# Altium integrated library WPT Round 2 TX.IntLib: 57 symbols
Pins are listed as number, name and electrical type; pins without a type are passive.

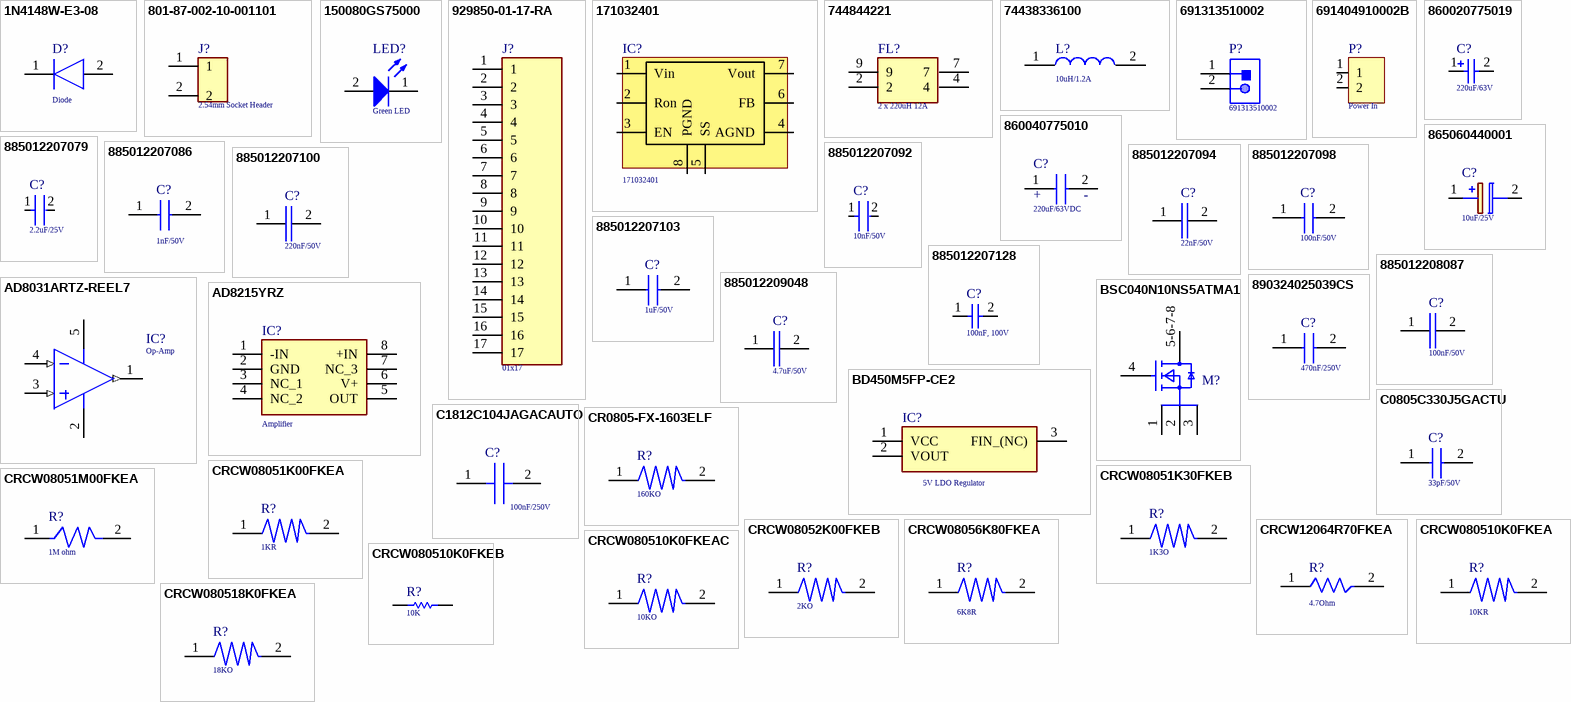
[diagram p0: symbols 1N4148W-E3-08 to CRCW080518K0FKEA]

## 1N4148W-E3-08
designator D?, comment Diode
Manufacturer_Name: Vishay; Manufacturer_Part_Number: 1N4148W-E3-08; Datasheet Link: https://componentsearchengine.com//1N4148W-E3-08.pdf; Height: 1.35mm; Mouser2 Part Number: 78-1N4148W-E3-08; Mouser2 Price/Stock: https://www.mouser.com/Search/Refine.aspx?Keyword=78-1N4148W-E3-08; Supplier 1: Digi-Key; Supplier Part Number 1: 1N4148W-E3-08CT-ND
footprint SOD3716X135N
pins: 1 K, 2 A

## 801-87-002-10-001101
designator J?, comment 2.54mm Socket Header
Connector; Manufacturer_Name: Preci-Dip; Manufacturer_Part_Number: 801-87-002-10-001101; Datasheet Link: https://componentsearchengine.com//801-87-002-10-001101.pdf; Height: 7mm; Mouser2 Part Number: 437-8018700210001101; Mouser2 Price/Stock: https://www.mouser.com/Search/Refine.aspx?Keyword=437-8018700210001101
footprint RHDR2W60P0X254_1X2_508X254X700P
pins: 1, 2

## 150080GS75000
designator LED?, comment Green LED
SMD mono-color Chip LED, WL-SMCW, Green; PartNumber: 150080GS75000; Manufacturer: Wuerth Elektronik; PackageReference: 0805_A; Color: Green; ComponentLink2URL: http://katalog.we-online.com/led/datasheet/150080GS75000.pdf; ComponentLink1URL: http://www.we-online.com; ComponentLink1Description: Manufacturer URL; ComponentLink2Description: Datasheet; Supplier 1: Mouser; Supplier Part Number 1: 710-150080GS75000
footprint 0805_A (Chip LED, 2-Leads, Body 2.0x1.3mm, IPC Medium Density)
pins: 1 K, 2 A

## 929850-01-17-RA
designator J?, comment 01x17
Connector 2.54mm; Manufacturer_Name: 3M; Manufacturer_Part_Number: 929850-01-17-RA; Datasheet Link: http://multimedia.3m.com/mws/media/22500O/3mtm-boardmount-skt-100-100x-100strt-sldr-tails-ts0815.pdf; Height: 8.26mm; Supplier Part Number 1: 517-929850-01-17-RA; Supplier 1: Mouser
footprint RHDR17W76P0X254_1X17_4318X254X826P
pins: 1, 2, 3, 4, 5, 6, 7, 8, 9, 10, 11, 12, 13, 14, 15, 16, 17

## 171032401
designator IC?
MagI³C-VDRM Variable Step Down Regulator Module WE-VDRM , Ui=6-42V; Manufacturer: Wuerth Elektronik; Ui: 6-42 V; ComponentLink1Description: Manufacturer URL; ComponentLink2Description: Datasheet; ComponentLink1URL: http://www.we-online.com; ComponentLink2URL: http://katalog-live.we-online.de/pm/datasheet/171032401.pdf; PartNumber: 171032401; PackageReference: 7 PIN PFM; Supplier 1: Mouser; Supplier Part Number 1: 710-171032401
footprint 7 PIN PFM (SMD, 7-Leads, Body 10.4x10.1mm (max), Pitch 1.27mm, IPC Medium Density)
pins: 1 Vin, 2 Ron, 3 EN, 4 AGND, 5 SS, 6 FB, 7 Vout, 8 PGND

## 744844221
designator FL?, comment 2 x 220uH 12A
Common Mode Choke 220uH 12A; Manufacturer_Name: Wurth Elektronik; Manufacturer_Part_Number: 744844221; Height: 33mm
footprint 744844221
pins: 2, 4, 7, 9

## 74438336100
designator L?, comment 10uH/1.2A
Inductor; Manufacturer_Name: Wurth Elektronik; Manufacturer_Part_Number: 74438336100; Datasheet Link: http://katalog.we-online.de/pbs/datasheet/74438336100.pdf; Supplier 1: Mouser; Supplier Part Number 1: 710-74438336100
footprint WE-MAPI_3020
pins: 1, 2

## 691313510002
designator P?
Serie 313 - 5.08mm Close Horizontal PCB Header WR-TBL, 2 pin; Manufacturer: Wurth Elektronik; Gender: Male; Pin Number: 2; Publisher: WurthElektronik; Packaging: Box; Part Number: 691313510002; Package Reference: 691313510002; Mounting Technology: THT; Datasheet URL: http://katalog.we-online.de/em/datasheet/6913135100xx.pdf; Pitch: 5.08mm; Operating Temperature: -40to105degC; Manufacturer URL: http://www.we-online.de; Supplier 1: Mouser; Supplier Part Number 1: 710-691313510002
footprint 691313510002 (5,08mm - PCB Headers - Horizontal - Closed ends - 02p)
pins: 1, 2

## 691404910002B
designator P?, comment Power In
Serie 4049 B - 7.50mm Screwless Clamp Power Connector WR-TBL, 2 pin; Part Number: 691404910002B; Manufacturer: Wurth Elektronik; Pin Number: 2; Mounting Technology: THT; Operating Temperature: -40to105degC; Package Reference: 691404910002B; Manufacturer URL: http://www.we-online.de; Publisher: WurthElektronik; Packaging: Box; Datasheet URL: http://katalog.we-online.de/em/datasheet/6914049100xxB.pdf; Pitch: 7.50mm; Supplier Part Number 1: 710-691404910002B; Supplier 1: Mouser
footprint 691404910002B (7.50 mm Screwless Clamp Power Connector, 2p)
pins: 1, 2

## 860020775019
designator C?, comment 220uF/63V
WCAP-ATUL Aluminum Electrolytic Capacitor, Radial, THT, D10xH16mm, 220uF/63V; Manufacturer: Wurth Elektronik; Manufacturer Part Number: 860040881014; Capacitance: 220uF; Ripple Current: 375mA; Technical Reference: ATDL410821M100DSPS1K000; Capacitance Tolerance: +/-20%; Rated Voltage: 63VDC; Leakage Current: 820uA; Endurance: 10000h; Dissipation Factor: 9%; ComponentLink1URL: http://www.we-online.de; ComponentLink1Description: Manufacturer; Published Date: October 2020; Packaging: Ammo Pack; Operating Temperature: -40 to +105degC; Mounting Technology: THT; Height: 41mm; Diameter: 18mm; ComponentLink2URL: https://www.we-online.com/catalog/datasheet/860040881014.pdf; ComponentLink2Description: Datasheet; Supplier 1: Mouser; Supplier Part Number 1: 710-860020775019
footprint WCAP-ATUL_D10H16 (Aluminum Electrolytic Capacitors, 10x16mm)
pins: 1 P, 2 N

## 860040775010
designator C?, comment 220uF/63VDC
Polarised Cap, 220uF/63VDC; Manufacturer_Name: Wurth Elektronik; Manufacturer_Part_Number: 860040775010; Datasheet Link: https://www.mouser.de/datasheet/2/445/860040775010-1725627.pdf; Height: 26.5mm
footprint CAPPRD500W62D1000H2650
pins: 1 +, 2 -

## 865060440001
designator C?, comment 10uF/25V
Capacitor Polarised 10uF/25V; Manufacturer_Name: Wurth Elektronik; Manufacturer_Part_Number: 865060440001; Datasheet Link: http://katalog.we-online.com/pbs/datasheet/865060440001.pdf; Height: 5.5mm
footprint CAPAE530X550N
pins: 1 +, 2 -

## 885012207079
designator C?, comment 2.2uF/25V
Dielectric: X5R; Capacitance: 2.2; Voltage Rating (DC): 25V; Max Operating Temperature: 125°C; Case/Package: 0805; Package Quantity: 2000; Case Code (Metric): 2012; Case Code (Imperial): 0805; Supplier 1: Mouser; Supplier Part Number 1: 710-885012207079
footprint 0805 Capacitor
pins: 1, 2

## 885012207086
designator C?, comment 1nF/50V
Manufacturer_Name: Wurth Elektronik; Manufacturer_Part_Number: 885012207086; Datasheet Link: https://katalog.we-online.com/pbs/datasheet/885012207086.pdf; Height: 0.9mm; Supplier 1: Mouser; Supplier Part Number 1: 710-885012207086
footprint CAPC2012X90N
pins: 1, 2

## 885012207092
designator C?, comment 10nF/50V
Supplier 1: Mouser; Supplier Part Number 1: 710-885012207092
footprint 0805 Capacitor
pins: 1, 2

## 885012207094
designator C?, comment 22nF/50V
Capacitor 22nF/50V; Manufacturer_Name: Wurth Elektronik; Manufacturer_Part_Number: 885012207094; Datasheet Link: https://componentsearchengine.com//885012207094.pdf; Height: 0.9mm; Mouser2 Part Number: 710-885012207094; Mouser2 Price/Stock: https://www.mouser.com/Search/Refine.aspx?Keyword=710-885012207094; Supplier 1: Mouser; Supplier Part Number 1: 710-885012207094
footprint CAPC2012X90N
pins: 1, 2

## 885012207098
designator C?, comment 100nF/50V
Manufacturer_Name: Wurth Elektronik; Height: 0.9mm; Supplier 1: Mouser; Supplier Part Number 1: 710-885012207098
footprint CAPC2012X90N
pins: 1, 2

## 885012207100
designator C?, comment 220nF/50V
Capacitor 220nF / 50V; Supplier 1: Mouser; Supplier Part Number 1: 710-885012207100
footprint CAPC2012X90N
pins: 1, 2

## 885012207103
designator C?, comment 1uF/50V
Capacitor 1uF/50V; Manufacturer_Name: Wurth Elektronik; Manufacturer_Part_Number: 885012207103; Datasheet Link: https://katalog.we-online.com/pbs/datasheet/885012207103.pdf; Height: 1.35mm; Supplier 1: Mouser; Supplier Part Number 1: 710-885012207103
footprint CAPC2012X135N
pins: 1, 2

## 885012207128
designator C?, comment 100nF, 100V
WCAP-CSGP Multilayer Ceramic Chip Capacitor, General Purpose, size 0805, X7R, 100nF, 100V; Manufacturer Part Number: 885012207128; Manufacturer: Wurth Elektronik; Rated Voltage: 100VDC; Isolation Resistance: >=1GOhm; Capacitance Tolerance: +/-10%; Technical Reference: X7R0805104K100DFCT10000; ComponentLink1Description: Manufacturer; ComponentLink1URL: http://www.we-online.de; ComponentLink2Description: Datasheet; ComponentLink2URL: https://www.we-online.com/catalog/datasheet/885012207128.pdf; Operating Temperature: -55 to +125degC; Packaging: Tape and Reel; Published Date: May 2020; Ceramic Type: X7R; Dissipation Factor: =<2.5%; Height: 1.25mm; Mounting Technology: SMT; Size: 0805; Capacitance: 100nF
footprint WCAP-CSGP_0805_H=1.25mm (Footprint not found)
pins: 1, 2

## 885012208087
designator C?, comment 100nF/50V
Capacitor 100nF/50V; Manufacturer_Name: Wurth Elektronik; Manufacturer_Part_Number: 885012208087; Datasheet Link: https://componentsearchengine.com//885012208087.pdf; Height: 0.9mm; Mouser2 Part Number: 710-885012208087; Mouser2 Price/Stock: https://www.mouser.com/Search/Refine.aspx?Keyword=710-885012208087; Supplier 1: Mouser; Supplier Part Number 1: 710-885012208087
footprint CAPC3216X90N
pins: 1, 2

## 885012209048
designator C?, comment 4.7uF/50V
Capacitor 4.7uF/50V; Manufacturer_Name: Wurth Elektronik; Manufacturer_Part_Number: 885012209048; Datasheet Link: https://katalog.we-online.com/pbs/datasheet/885012209048.pdf; Height: 2.8mm; Supplier 1: Mouser; Supplier Part Number 1: 710-885012209048
footprint CAPC3225X280N
pins: 1, 2

## 890324025039CS
designator C?, comment 470nF/250V
Safety Capacitor, 470nF/250V; Manufacturer_Name: Wurth Elektronik; Manufacturer_Part_Number: 890324025039CS; Height: 14.5mm
footprint 890324025039CS
pins: 1, 2

## AD8031ARTZ-REEL7
designator IC?, comment Op-Amp
Single Channel RRIO Operational Amplifier, 80 MHz BW, 35 V/us SR, Industrial, 5-pin SOT23 (RJ-5), Reel; Manufacturer: Analog Devices; PartNumber: AD8031ARTZ-REEL7; Generic Part Number: AD8031; V Span Max: 12V; Slew Rate: 35V/us; Input Bias Current: 450nA; Amplifiers Per Package: 1; V Span Min: 2.7V; Iq/Amp: 900uA; Small Signal Bandwidth: 80MHz; Input Offset Voltage: 1mV; ComponentLink4URL: http://www.analog.com/en/all-operational-amplifiers-op-amps/operational-amplifiers-op-amps/ad8031/products/product.html#product-recommendations; PackageDescription: 5-Pin Small Outline Transistor Package, Body 2.9 x 1.6 mm, Pitch 0.95 mm; Mounting Technology: Surface Mount; PackageReference: RJ-5; ComponentLink2Description: Datasheet; ComponentLink1Description: Manufacturer URL; ComponentLink2URL: http://www.analog.com/static/imported-files/data_sheets/AD8031_8032.pdf; ComponentLink3URL: http://www.analog.com/static/imported-files/packages/PKG_PDF/SOT-23(RJ)/RJ_5.pdf; ComponentLink1URL: http://www.analog.com/en/index.html; RevisionNote: Reference Circuit URL fixed; ComponentLink3Description: Package Specification; ComponentLink4Description: Reference Circuit; PackageVersion: 121608-A; DatasheetVersion: Rev. D; Packing: Reel; Code_JEDEC: MO-178-AA; Supplier 1: Mouser; Supplier Part Number 1: 584-AD8031ARTZ-R7
footprint ADI-RJ-5_N (SOT-23, 5-Leads, Body 2.9x1.6mm, Pitch 0.95mm, IPC Medium Density)
pins: 1 VOUT (out), 2 -VS (power), 3 +IN (in), 4 -IN (in), 5 +VS (power)

## AD8215YRZ
designator IC?, comment Amplifier
Integrated Circuit Amplifier; Manufacturer_Name: Analog Devices; Manufacturer_Part_Number: AD8215YRZ; Datasheet Link: http://www.analog.com/static/imported-files/data_sheets/AD8215.pdf; Height: 1.75mm; Supplier 1: Mouser; Supplier Part Number 1: 584-AD8215YRZ
footprint SOIC127P600X175-8N
pins: 1 -IN, 2 GND, 3 NC_1, 4 NC_2, 5 OUT, 6 V+, 7 NC_3, 8 +IN

## BD450M5FP-CE2
designator IC?, comment 5V LDO Regulator
Manufacturer_Name: ROHM Semiconductor; Manufacturer_Part_Number: BD450M5FP-CE2; Datasheet Link: https://componentsearchengine.com//BD450M5FP-CE2.pdf; Mouser2 Part Number: 755-BD450M5FP-CE2; Mouser2 Price/Stock: https://www.mouser.com/Search/Refine.aspx?Keyword=755-BD450M5FP-CE2
footprint ROHM_TO-252-3
pins: 1 VCC, 2 VOUT, 3 FIN_(NC)

## BSC040N10NS5ATMA1
designator M?, comment Mosfet  (value not drawn)
MOSFET N-CH 100V 100A 8TDSON / Mosfet Switcher; Manufacturer: Infineon; Manufacturer Part Number: BSC040N10NS5ATMA1; Threshold Vgs Max: 3.8V; Reverse Recovery Charge: 90nC; Number Of N Channels: 1; Input Capacitace At Vds: 4100pF @ 50V; Turn On Delay Time: 13ns; Drain To Source Resistance: 3.4mΩ; Max Junction Temp: +150°C; Transconductance: 120S; Power Dissipation: 139W; Gate Charge At Vgs: 58nC @ 10V; Threshold Vgs Min: 2.2V; Typ Forward Diode Voltage: 0.9V; Depletion Mode: False; Gate To Source Voltage: 20V; Rthja Max: 50K/W; Pulse Drain Current: 400A; Turn Off Delay Time: 32ns; Max Forward Diode Voltage: 1.1V; Reverse Recovery Time: 54ns; ComponentLink2Description: Datasheet; Temperature Range Low: -55°C; Automotive: No; Number Of Channels: 1; Mouser Description: MOSFET N-Ch 100V 100A TDSON-8; Height: 1.1mm; Temperature Range High: +150°C; Drain To Source Breakdown Voltage: 100V; Temperature: -55°C to +150°C; Device Class L3: MOSFETs; Drain To Source Voltage: 100V; Digikey Description: MOSFET N-CH 100V 100A 8TDSON; Continuous Drain Current: 100A; Package: PG-TDSON-8; Lead Free: Yes; ComponentLink2URL: https://www.infineon.com/dgdl/Infineon-BSC040N10NS5-DS-v02_02-EN.pdf?fileId=5546d4624a0bf290014a0fbcee2e6b38; Footprint Url: https://www.infineon.com/dgdl/Infineon-PG-TDSON-8-7-FP-v01_00-EN.pdf?fileId=5546d46259d9a4bf015a1b6adadd1f0a; Device Class L2: Transistors; Category: Trans; RoHS: TRUE; Device Class L1: Discrete Semiconductors; Octopart: https://octopart.com/bsc040n10ns5atma1-infineon-52825711; Supplier 1: Mouser; Supplier Part Number 1: 726-BSC040N10NS5ATMA
footprint FP-PG-TDSON-8-MFG
pins: 1 S, 2 S, 3 S, 4 G, 5-6-7-8 D

## C0805C330J5GACTU
designator C?, comment 33pF/50V
Capacitor 33pF/50V; Manufacturer_Name: Kemet; Manufacturer_Part_Number: C0805C330J5GACTU; Supplier 1: Mouser; Supplier Part Number 1: 80-C0805C330J5G
footprint CAPC2012X90N
pins: 1 C1, 2 C2

## C1812C104JAGACAUTO
designator C?, comment 100nF/250V
Manufacturer_Name: Kemet; Manufacturer_Part_Number: C1812C104JAGACAUTO; Datasheet Link: https://api.kemet.com/component-edge/download/datasheet/C1812C104JAGACAUTO.pdf; Height: 2.2mm; Supplier Part Number 1: 80-C1812C104JAGAUTO; Supplier 1: Mouser
footprint CAPC4532X220N
pins: 1, 2

## CR0805-FX-1603ELF
designator R?, comment 160KO
Resistor 160K Ohm; Number of Terminations: 2; Supplier 1: Mouser; Supplier Part Number 1: 652-CR0805FX-1603ELF
footprint FP-CRCW0805-e3-MFG
pins: 1, 2

## CRCW08051K00FKEA
designator R?, comment 1KR
Resistor 1k Ohm; Number of Terminations: 2; Supplier 1: Mouser; Supplier Part Number 1: 71-CRCW0805-1.0K-E3
footprint FP-CRCW0805-e3-MFG
pins: 1, 2

## CRCW08051K30FKEB
designator R?, comment 1K3O
Resistor 1K3 Ohm; Number of Terminations: 2; Supplier 1: Mouser; Supplier Part Number 1: 71-CRCW08051K30FKEB
footprint FP-CRCW0805-e3-MFG
pins: 1, 2

## CRCW08051M00FKEA
designator R?, comment 1M ohm
RES Thick Film, 1MΩ, 1%, 0.125W, 100ppm/°C, 0805 / 1M Ohm Resistor; Voltage Rating (DC): 150V; Resistance: 1MR; Power Rating: 125mW; Packaging: Tape and Reel; Case Code (Metric): 2012; Case/Package: 0805; Width: 1.25mm; Mount: Surface Mount; Military Standard: Not; Radiation Hardening: No; Weight: 0.000194oz; Package Quantity: 5000; Max Operating Temperature: 155°C; Contact Plating: Tin; Composition: Thick Film; Number of Pins: 2; Tolerance: 1%; Termination: SMD/SMT; Case Code (Imperial): 0805; Depth: 1.25mm; Temperature Coefficient: 100ppm/°C; Min Operating Temperature: -55°C; Height: 0.45mm; Lead Free: Lead Free; Length: 2mm; Voltage Rating: 150V; Supplier 1: Mouser; Supplier Part Number 1: 71-CRCW08051M00FKEAH
footprint FP-CRCW0805-e3-MFG
pins: 1, 2

## CRCW08052K00FKEB
designator R?, comment 2KO
RES Thick Film, 2kΩ, 1%, 0.125W, 100ppm/°C, 0805; Voltage Rating (DC): 150V; Power Rating: 125mW; Resistance: 2kR; Number of Terminations: 2; Weight: 0.000194oz; Contact Plating: Tin; Radiation Hardening: No; Package Quantity: 10000; Lead Free: Lead Free; Case Code (Metric): 2012; Height: 0.02inch; Case/Package: 0805; Width: 0.049inch; Max Operating Temperature: 155°C; Packaging: Tape and Reel; Termination: SMD/SMT; Temperature Coefficient: 100ppm/°C; Composition: Thick Film; Features: Automotive AEC-Q200; Min Operating Temperature: -55°C; Voltage Rating: 150V; Number of Pins: 2; Length: 0.079inch; Case Code (Imperial): 0805; Max Power Dissipation: 125mW; Tolerance: 1%; Supplier Part Number 1: 71-CRCW08052K00FKEB; Supplier 1: Mouser
footprint FP-CRCW0805-e3-MFG
pins: 1, 2

## CRCW08056K80FKEA
designator R?, comment 6K8R
Resistor 6.8K Ohm; Number of Terminations: 2; Supplier 1: Mouser; Supplier Part Number 1: 71-CRCW0805-6.8K-E3
footprint FP-CRCW0805-e3-MFG
pins: 1, 2

## CRCW12064R70FKEA
designator R?, comment 4.7Ohm
RES Thick Film, 4.7Ω, 1%, 0.25W, 100ppm/°C, 1206 / MOSFET Gate Fast-off Resistor 4.7Ohm; Resistance: 4.7R; Power Rating: 250mW; Voltage Rating: 200V; Length: 3.2mm; Composition: Thick Film; Weight: 0.000353oz; Temperature Coefficient: 100ppm/°C; Height: 0.024inch; Case Code (Imperial): 1206; Width: 0.063inch; Number of Terminations: 2; Case Code (Metric): 3216; Features: Automotive AEC-Q200; Packaging: Tape and Reel; Tolerance: 1%; Contact Plating: Tin; Military Standard: Not; Depth: 1.6mm; Max Operating Temperature: 155°C; Number of Pins: 2; Min Operating Temperature: -55°C; Max Power Dissipation: 250mW; Mount: Surface Mount; Case/Package: 1206; Package Quantity: 10; Radiation Hardening: No; Supplier 1: Mouser; Supplier Part Number 1: 71-CRCW12064R70FKEA
footprint FP-CRCW1206-e3-IPC_B
footprint FP-CRCW1206-e3-IPC_C
footprint FP-CRCW1206-e3-MFG
footprint FP-CRCW1206-e3-IPC_A
pins: 1, 2

## CRCW080510K0FKEA
designator R?, comment 10KR
Resistor 10K Ohm; Number of Terminations: 2; Supplier 1: Mouser; Supplier Part Number 1: 71-CRCW0805-10K-E3
footprint FP-CRCW0805-e3-MFG
pins: 1, 2

## CRCW080510K0FKEAC
designator R?, comment 10KO
Resistor 10K Ohm; Number of Terminations: 2; Supplier 1: Mouser; Supplier Part Number 1: 71-CRCW0805-10K-E3
footprint FP-CRCW0805-e3-MFG
pins: 1, 2

## CRCW080510K0FKEB
designator R?, comment 10K
High Presicion 10K Ohm; Supplier 1: Newark; Supplier Part Number 1: 26R4046
footprint 0805 Resistor (Chip Resistor, 2-Leads, Body 2.00x1.25mm, IPC Low Density)
pins: 1, 2
1 alternate drawing of the same symbol

## CRCW080518K0FKEA
designator R?, comment 18KO
Resistor 18K Ohm; Number of Terminations: 2; Supplier 1: Mouser; Supplier Part Number 1: 71-CRCW080518K0FKEA
footprint FP-CRCW0805-e3-MFG
pins: 1, 2

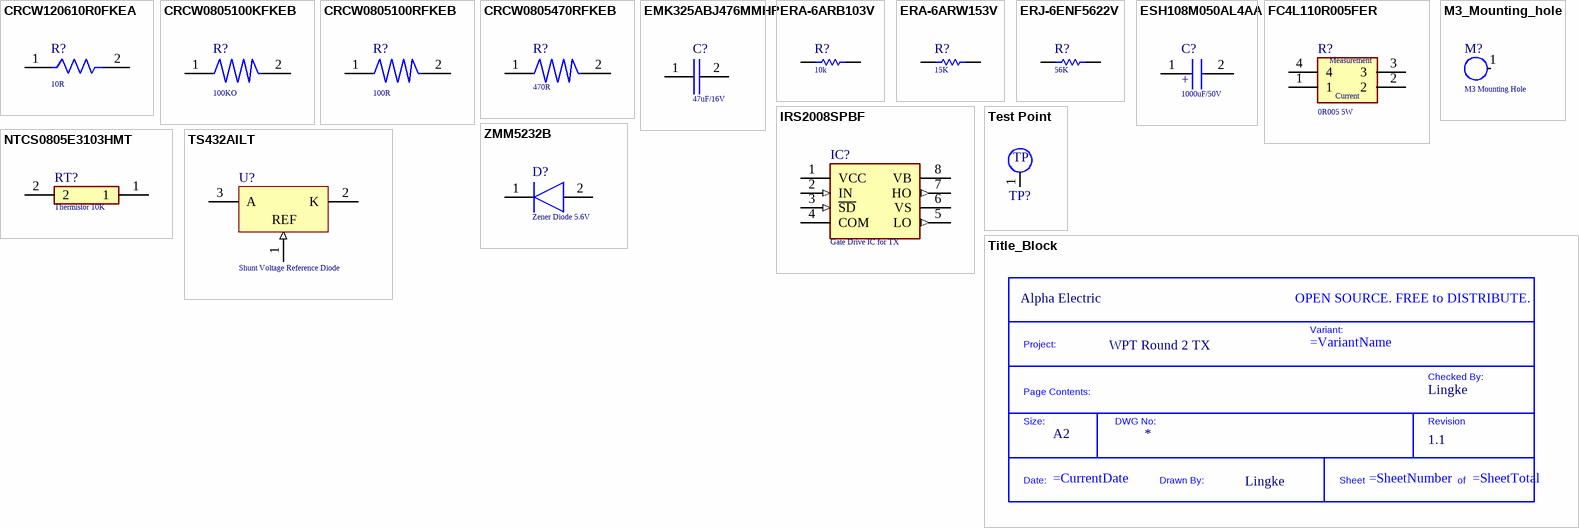
[diagram p1: symbols CRCW120610R0FKEA to ZMM5232B]

## CRCW120610R0FKEA
designator R?, comment 10R
RES Thick Film, 10Ω, 1%, 0.25W, 100ppm/°C, 1206 / MOSFET Gate Resistor 10Ohm; Power Rating: 250mW; Voltage Rating (DC): 200V; Number of Terminations: 2; Width: 0.063inch; Case Code (Imperial): 1206; Depth: 1.6mm; Contact Plating: Tin; Radiation Hardening: No; Lead Free: Lead Free; Length: 3.2mm; Tolerance: 1%; Max Power Dissipation: 250mW; Composition: Thick Film; Weight: 0.000353oz; Case/Package: 1206; Number of Pins: 2; Package Quantity: 10; Min Operating Temperature: -55°C; Military Standard: Not; Max Operating Temperature: 155°C; Termination: SMD/SMT; Case Code (Metric): 3216; Voltage Rating: 200V; Height: 0.55mm; Features: Automotive AEC-Q200; Temperature Coefficient: 100ppm/°C; Resistance: 10R; Packaging: Tape and Reel; Supplier 1: Digi-Key; Supplier Part Number 1: 541-10.0FDKR-ND
footprint FP-CRCW1206-e3-IPC_B
footprint FP-CRCW1206-e3-IPC_C
footprint FP-CRCW1206-e3-MFG
footprint FP-CRCW1206-e3-IPC_A
pins: 1, 2

## CRCW0805100KFKEB
designator R?, comment 100KO
Resistor 100K Ohm; Number of Terminations: 2; Supplier 1: Mouser; Supplier Part Number 1: 71-CRCW0805100KFKEB
footprint FP-CRCW0805-e3-MFG
pins: 1, 2

## CRCW0805100RFKEB
designator R?, comment 100R
Resistor 100 Ohm; Number of Terminations: 2; Supplier 1: Mouser; Supplier Part Number 1: 71-CRCW0805100RFKEB
footprint FP-CRCW0805-e3-MFG
pins: 1, 2

## CRCW0805470RFKEB
designator R?, comment 470R
Resistor 470 Ohm; Number of Terminations: 2; Supplier 1: Mouser; Supplier Part Number 1: 71-CRCW0805470RFKEB
footprint FP-CRCW0805-e3-MFG
pins: 1, 2

## EMK325ABJ476MMHP
designator C?, comment 47uF/16V
Capacitor 47uF/16V; Supplier 1: Mouser; Supplier Part Number 1: 963-EMK325ABJ476MMHP
footprint CAPC3225X280N
pins: 1, 2

## ERA-6ARB103V
designator R?, comment 10k
High Presition and High reliability 10K Ohm Resistor; Supplier 1: Mouser; Supplier Part Number 1: 667-ERA-6ARB103V
footprint 0805 Resistor (Chip Resistor, 2-Leads, Body 2.00x1.25mm, IPC Low Density)
pins: 1, 2
1 alternate drawing of the same symbol

## ERA-6ARW153V
designator R?, comment 15K
High Presicion 15K Ohm; Supplier 1: Mouser; Supplier Part Number 1: 667-ERA-6ARW153V
footprint 0805 Resistor (Chip Resistor, 2-Leads, Body 2.00x1.25mm, IPC Low Density)
pins: 1, 2
1 alternate drawing of the same symbol

## ERJ-6ENF5622V
designator R?, comment 56K
56K Ohm Resistor; Supplier 1: Mouser; Supplier Part Number 1: 667-ERJ-6ENF5622V
footprint 0805 Resistor (Chip Resistor, 2-Leads, Body 2.00x1.25mm, IPC Low Density)
pins: 1, 2
1 alternate drawing of the same symbol

## ESH108M050AL4AA
designator C?, comment 1000uF/50V
Capacitor 1000uF; Supplier 1: Mouser; Supplier Part Number 1: 80-ESH108M050AL4AA
footprint CAPPRD500W62D1300H2650
pins: 1 +, 2 -

## FC4L110R005FER
designator R?, comment 0R005 5W
Resistor 0R005 5W; Manufacturer_Name: Ohmite; Manufacturer_Part_Number: FC4L110R005FER; Height: 0.7mm; Supplier 1: Mouser; Supplier Part Number 1: 588-FC4L110R005FER
footprint FC4L110R005FER
pins: 1, 2, 3, 4
text: Measurement; Current

## IRS2008SPBF
designator IC?, comment Gate Drive IC for TX
Gate Drive IC; Manufacturer_Name: Infineon; Manufacturer_Part_Number: IRS2008SPBF; Height: 1.75mm; Supplier 1: Mouser; Supplier Part Number 1: 726-IRS2008SPBF
footprint SOIC127P600X175-8N
pins: 1 VCC (power), 2 IN (in), 3 ~{SD} (in), 4 COM (power), 5 LO (out), 6 VS (power), 7 HO (out), 8 VB (power)

## M3_Mounting_hole
designator M?, comment M3 Mounting Hole
footprint M3 Hole
pins: 1

## NTCS0805E3103HMT
designator RT?, comment Thermistor 10K
Thermistor 10Kohm B Parameter: 3950k; Manufacturer_Name: Vishay; Manufacturer_Part_Number: NTCS0805E3103HMT; Datasheet Link: http://www.vishay.com/docs/29044/ntcs0805e3t.pdf; Height: 0.95mm; Supplier 1: Mouser; Supplier Part Number 1: 594-NTCS0805E3103HMT
footprint THRMC2012X95N
pins: 1, 2

## Test Point
designator TP?, comment TP  (value not drawn)  (no BOM)
Test Point 1mm by 1mm
footprint Test Point
pins: 1 TP

## Title_Block
designator *?  Project Name: WPT Round 2 TX  Company: Alpha Electric  Drawn By: Lingke  Revision: 1.1  Size: A2  (hidden comment: Title_Block)  (no BOM)
Standard Title Block.; DWG No: *; Checked By: Lingke
text: OPEN SOURCE. FREE to DISTRIBUTE.; Variant:; Project:; Checked By:; Page Contents:; Size:; DWG No:; Revision; Date:; Drawn By:; Sheet; of

## TS432AILT
designator U?, comment Shunt Voltage Reference Diode
Shunt voltage reference, adjustable, 1.24 to 10V, 0.5% precision, 3-Pin SOT23-3L, Tape and Reel; ComponentLink1URL: http://www.st.com; PackageDescription: 3-Pin SOT-23 Package 0.95 mm Pitch, 2.4 mm Lead Span; ComponentLink2Description: Datasheet; DatasheetVersion: Apr-2008; ComponentLink1Description: Manufacturer URL; ComponentLink2URL: http://www.st.com/internet/com/TECHNICAL_RESOURCES/TECHNICAL_LITERATURE/DATASHEET/CD00003202.pdf; PackageVersion: 2011; PackageReference: SOT23-3; Supplier 1: Digi-Key; Supplier Part Number 1: 497-TS432AILTCT-ND
footprint SOT23-3_N (SOT23, 3-Leads, Body 2.9x1.3mm, Pitch 0.95mm, Lead Span 2.4mm, IPC Medium Density)
pins: 1 REF (in), 2 K, 3 A

## ZMM5232B
designator D?, comment Zener Diode 5.6V
Zener Diode 5.6V 0.5W; Manufacturer_Name: Rectron; Manufacturer_Part_Number: ZMM5232B; Datasheet Link: https://componentsearchengine.com/Datasheets/1/ZMM5232B.pdf; Height: 1.5mm; Supplier 1: Mouser; Supplier Part Number 1: 583-ZMM5232B
footprint ZMM5232B
pins: 1 K, 2 A